# Altium integrated library Micron Memory SDRAM.IntLib: 192 symbols (part 7 of 38)
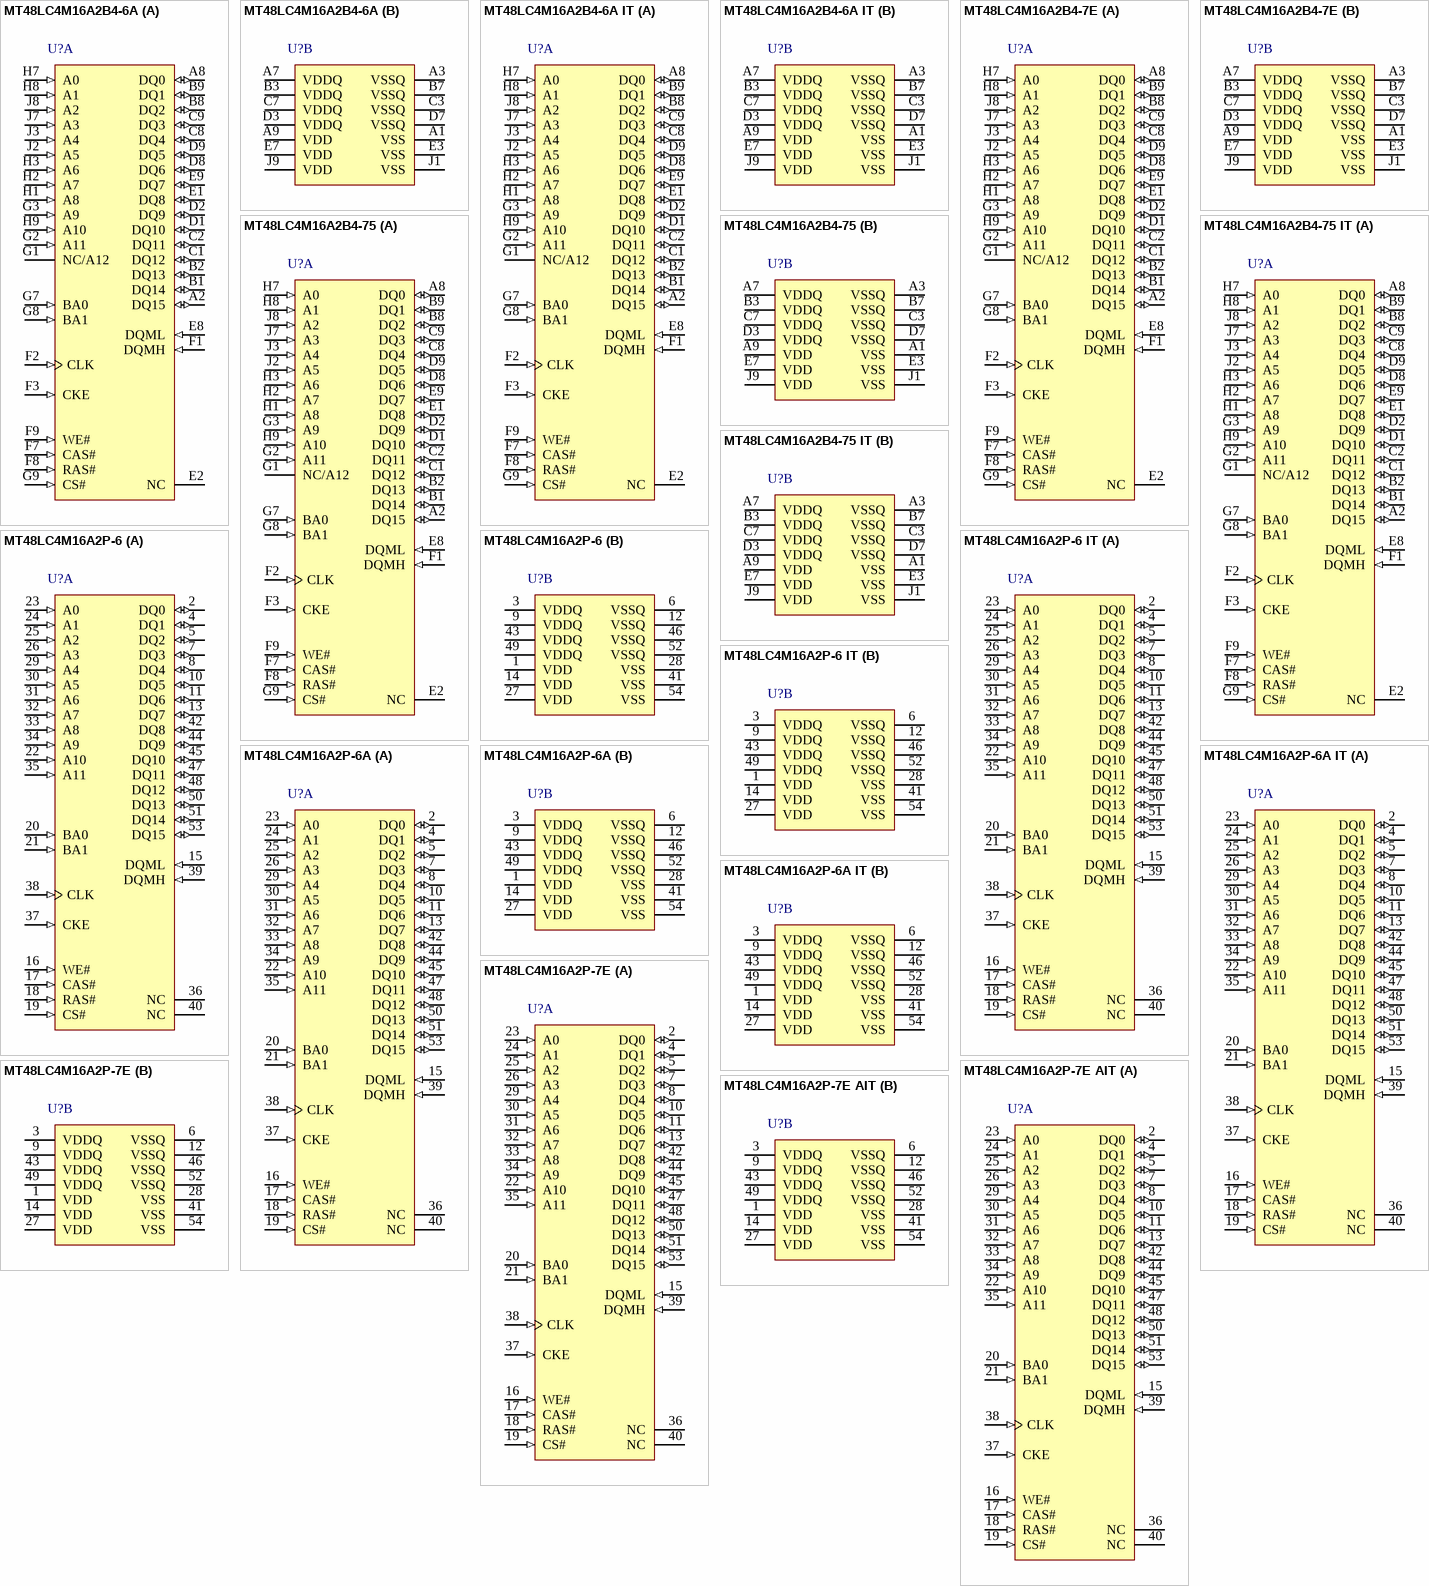
[diagram p26: symbols MT48LC4M16A2B4-6A to MT48LC4M16A2P-7E AIT]

## MT48LC4M16A2P-7E
designator U?
64Mb PC133 SDR SDRAM, 4Mb x 16, 7.5ns, 3.3V, 0 to 70 degC, 54-Pin TSOP, Pb-Free; Manufacturer: Micron; PartNumber: MT48LC4M16A2P-7E; CL: CL = 2; Clock Rate: 133 MHz; Op. Temp.: 0C to +70C; DatasheetVersion: Rev.Q; PackageVersion: Rev.Q; PackageReference: MICT-P-54; PackageDescription: 54-Pin Thin Small Outline Package, 10.16 x 22.22 mm, Pitch 0.8 mm; Cycle Time: 7.5ns; Data Rate: PC133; Density: 64Mb; Depth: 4Mb; RoHS: Yes; Voltage: 3.3V; Width: x16; Mounting Technology: Surface Mount; ComponentLink1Description: Manufacturer URL; ComponentLink1URL: http://www.micron.com/; ComponentLink2Description: Datasheet; ComponentLink2URL: http://www.micron.com/~/media/Documents/Products/Data%20Sheet/DRAM/128Mbx16x32Mobile.pdf; ComponentLink3Description: Package Specification; ComponentLink3URL: http://www.micron.com/~/media/Documents/Products/Data%20Sheet/DRAM/128mb_x4x8x16_sdram.pdf
footprint MICT-P-54_N (SOP, 54-Leads, Body 22.22x10.16mm, Pitch 0.8mm, IPC Medium Density)
part A pins: 2 DQ0 (io) "Data input/output", 4 DQ1 (io) "Data input/output", 5 DQ2 (io) "Data input/output", 7 DQ3 (io) "Data input/output", 8 DQ4 (io) "Data input/output", 10 DQ5 (io) "Data input/output", 11 DQ6 (io) "Data input/output", 13 DQ7 (io) "Data input/output", 15 DQML (in) "Input/output mask: DQM is sampled HIGH and is an input mask signal for writ accesses and an output enable signal for read accesses. Input data is masked during a WRITE cycle. Theoutput buffers are High-Z (two-clock latency) (See Datasheet)", 16 WE# (in) "Command inputs: WE#define the command being entered", 17 CAS# (in) "Command inputs:CAS# define the command being entered", 18 RAS# (in) "Command inputs: RAS#define the command being entered", 19 CS# (in) "Chip select: CS# enables (registered LOW) and disables (registered HIGH) the command decoder.All commands are masked when CS# is registered HIGH, but READ/WRITE bursts already in progress will continue, and DQM operation (See Datasheet)", 20 BA0 (in) "Bank address input(s): BA[1:0] define to which bank the ACTIVE, READ, WRITE, or PRECHARGE command is being applied.", 21 BA1 (in) "Bank address input(s): BA[1:0] define to which bank the ACTIVE, READ, WRITE, or PRECHARGE command is being applied.", 22 A10 (in) "Address inputs: A[11:0] are sampled during the ACTIVE command (row address A[11:0]) and READ or WRITE command (column address  A[7:0] for x16; with A10 defining auto precharge) to select one location out of the memory array (See Datasheet)", 23 A0 (in) "Address inputs: A[11:0] are sampled during the ACTIVE command (row address A[11:0]) and READ or WRITE command (column address  A[7:0] for x16; with A10 defining auto precharge) to select one location out of the memory array (See Datasheet)", 24 A1 (in) "Address inputs: A[11:0] are sampled during the ACTIVE command (row address A[11:0]) and READ or WRITE command (column address  A[7:0] for x16; with A10 defining auto precharge) to select one location out of the memory array (See Datasheet)", 25 A2 (in) "Address inputs: A[11:0] are sampled during the ACTIVE command (row address A[11:0]) and READ or WRITE command (column address  A[7:0] for x16; with A10 defining auto precharge) to select one location out of the memory array (See Datasheet)", 26 A3 (in) "Address inputs: A[11:0] are sampled during the ACTIVE command (row address A[11:0]) and READ or WRITE command (column address  A[7:0] for x16; with A10 defining auto precharge) to select one location out of the memory array (See Datasheet)", 29 A4 (in) "Address inputs: A[11:0] are sampled during the ACTIVE command (row address A[11:0]) and READ or WRITE command (column address  A[7:0] for x16; with A10 defining auto precharge) to select one location out of the memory array (See Datasheet)", 30 A5 (in) "Address inputs: A[11:0] are sampled during the ACTIVE command (row address A[11:0]) and READ or WRITE command (column address  A[7:0] for x16; with A10 defining auto precharge) to select one location out of the memory array (See Datasheet)", 31 A6 (in) "Address inputs: A[11:0] are sampled during the ACTIVE command (row address A[11:0]) and READ or WRITE command (column address  A[7:0] for x16; with A10 defining auto precharge) to select one location out of the memory array (See Datasheet)", 32 A7 (in) "Address inputs: A[11:0] are sampled during the ACTIVE command (row address A[11:0]) and READ or WRITE command (column address  A[7:0] for x16; with A10 defining auto precharge) to select one location out of the memory array (See Datasheet)", 33 A8 (in) "Address inputs: A[11:0] are sampled during the ACTIVE command (row address A[11:0]) and READ or WRITE command (column address  A[7:0] for x16; with A10 defining auto precharge) to select one location out of the memory array (See Datasheet)", 34 A9 (in) "Address inputs: A[11:0] are sampled during the ACTIVE command (row address A[11:0]) and READ or WRITE command (column address  A[7:0] for x16; with A10 defining auto precharge) to select one location out of the memory array (See Datasheet)", 35 A11 (in) "Address inputs: A[11:0] are sampled during the ACTIVE command (row address A[11:0]) and READ or WRITE command (column address  A[7:0] for x16; with A10 defining auto precharge) to select one location out of the memory array (See Datasheet)", 36 NC "No connect: These should be left unconnected", 37 CKE (in) "Clock enable: CKE activates (HIGH) and deactivates (LOW) the CLK signal. Deactivating the clock provides precharge power-down and SELF REFRESH operation (all banks idle), active power-down (row active in any bank), or CLOCK (See Datasheet)", 38 CLK (in) "Clock: CLK is driven by the system clock. All SDRAM input signals are sampled on the positive edge of CLK. CLK also increments the internal burst counter and controls the output registers.", 39 DQMH (in) "Input/output mask: DQM is sampled HIGH and is an input mask signal for write accesses and an output enable signal for read accesses. Input data is masked during a WRITE cycle. The output buffers are High-Z (two-clock (See Datasheet)", 40 NC "No connect: These should be left unconnected", 42 DQ8 (io) "Data input/output: Data bus for x16", 44 DQ9 (io) "Data input/output: Data bus for x16", 45 DQ10 (io) "Data input/output: Data bus for x16", 47 DQ11 (io) "Data input/output: Data bus for x16", 48 DQ12 (io) "Data input/output: Data bus for x16", 50 DQ13 (io) "Data input/output: Data bus for x16", 51 DQ14 (io) "Data input/output: Data bus for x16", 53 DQ15 (io) "Data input/output: Data bus for x16"
part B pins: 1 VDD (power) "Power supply: 3.3V +/-0.3V.", 3 VDDQ (power) "DQ power: DQ power to the die for improved noise immunity.", 6 VSSQ (power) "DQ ground: DQ ground to the die for improved noise immunity", 9 VDDQ (power) "DQ power: DQ power to the die for improved noise immunity.", 12 VSSQ (power) "DQ ground: DQ ground to the die for improved noise immunity", 14 VDD (power) "Power supply: 3.3V +/-0.3V.", 27 VDD (power) "Power supply: 3.3V +/-0.3V.", 28 VSS (power) "Ground.", 41 VSS (power) "Ground", 43 VDDQ (power) "DQ power: DQ power to the die for improved noise immunity", 46 VSSQ (power) "DQ ground: DQ ground to the die for improved noise immunity", 49 VDDQ (power) "DQ power: DQ power to the die for improved noise immunity", 52 VSSQ (power) "DQ ground: DQ ground to the die for improved noise immunity", 54 VSS (power) "Ground."

## MT48LC4M16A2P-7E AIT
designator U?
64Mb PC133 SDR SDRAM, 4Mb x 16, 7.5ns, 3.3V, -40 to 85 degC, 54-Pin TSOP, Pb-Free; Manufacturer: Micron; PartNumber: MT48LC4M16A2P-7E AIT; CL: CL = 2; Clock Rate: 143 MHz; Op. Temp.: -40C to +85C; DatasheetVersion: Rev.Q; PackageVersion: Rev.Q; PackageReference: MICT-P-54; PackageDescription: 54-Pin Thin Small Outline Package, 10.16 x 22.22 mm, Pitch 0.8 mm; Cycle Time: 7.5ns; Data Rate: PC133; Density: 64Mb; Depth: 4Mb; RoHS: Yes; Voltage: 3.3V; Width: x16; Mounting Technology: Surface Mount; ComponentLink1Description: Manufacturer URL; ComponentLink1URL: http://www.micron.com/; ComponentLink2Description: Datasheet; ComponentLink2URL: http://www.micron.com/~/media/Documents/Products/Data%20Sheet/DRAM/128Mbx16x32Mobile.pdf; ComponentLink3Description: Package Specification; ComponentLink3URL: http://www.micron.com/~/media/Documents/Products/Data%20Sheet/DRAM/128mb_x4x8x16_sdram.pdf
footprint MICT-P-54_N (SOP, 54-Leads, Body 22.22x10.16mm, Pitch 0.8mm, IPC Medium Density)
part A pins: 2 DQ0 (io) "Data input/output", 4 DQ1 (io) "Data input/output", 5 DQ2 (io) "Data input/output", 7 DQ3 (io) "Data input/output", 8 DQ4 (io) "Data input/output", 10 DQ5 (io) "Data input/output", 11 DQ6 (io) "Data input/output", 13 DQ7 (io) "Data input/output", 15 DQML (in) "Input/output mask: DQM is sampled HIGH and is an input mask signal for writ accesses and an output enable signal for read accesses. Input data is masked during a WRITE cycle. Theoutput buffers are High-Z (two-clock latency) (See Datasheet)", 16 WE# (in) "Command inputs: WE#define the command being entered", 17 CAS# (in) "Command inputs:CAS# define the command being entered", 18 RAS# (in) "Command inputs: RAS#define the command being entered", 19 CS# (in) "Chip select: CS# enables (registered LOW) and disables (registered HIGH) the command decoder.All commands are masked when CS# is registered HIGH, but READ/WRITE bursts already in progress will continue, and DQM operation (See Datasheet)", 20 BA0 (in) "Bank address input(s): BA[1:0] define to which bank the ACTIVE, READ, WRITE, or PRECHARGE command is being applied.", 21 BA1 (in) "Bank address input(s): BA[1:0] define to which bank the ACTIVE, READ, WRITE, or PRECHARGE command is being applied.", 22 A10 (in) "Address inputs: A[11:0] are sampled during the ACTIVE command (row address A[11:0]) and READ or WRITE command (column address  A[7:0] for x16; with A10 defining auto precharge) to select one location out of the memory array (See Datasheet)", 23 A0 (in) "Address inputs: A[11:0] are sampled during the ACTIVE command (row address A[11:0]) and READ or WRITE command (column address  A[7:0] for x16; with A10 defining auto precharge) to select one location out of the memory array (See Datasheet)", 24 A1 (in) "Address inputs: A[11:0] are sampled during the ACTIVE command (row address A[11:0]) and READ or WRITE command (column address  A[7:0] for x16; with A10 defining auto precharge) to select one location out of the memory array (See Datasheet)", 25 A2 (in) "Address inputs: A[11:0] are sampled during the ACTIVE command (row address A[11:0]) and READ or WRITE command (column address  A[7:0] for x16; with A10 defining auto precharge) to select one location out of the memory array (See Datasheet)", 26 A3 (in) "Address inputs: A[11:0] are sampled during the ACTIVE command (row address A[11:0]) and READ or WRITE command (column address  A[7:0] for x16; with A10 defining auto precharge) to select one location out of the memory array (See Datasheet)", 29 A4 (in) "Address inputs: A[11:0] are sampled during the ACTIVE command (row address A[11:0]) and READ or WRITE command (column address  A[7:0] for x16; with A10 defining auto precharge) to select one location out of the memory array (See Datasheet)", 30 A5 (in) "Address inputs: A[11:0] are sampled during the ACTIVE command (row address A[11:0]) and READ or WRITE command (column address  A[7:0] for x16; with A10 defining auto precharge) to select one location out of the memory array (See Datasheet)", 31 A6 (in) "Address inputs: A[11:0] are sampled during the ACTIVE command (row address A[11:0]) and READ or WRITE command (column address  A[7:0] for x16; with A10 defining auto precharge) to select one location out of the memory array (See Datasheet)", 32 A7 (in) "Address inputs: A[11:0] are sampled during the ACTIVE command (row address A[11:0]) and READ or WRITE command (column address  A[7:0] for x16; with A10 defining auto precharge) to select one location out of the memory array (See Datasheet)", 33 A8 (in) "Address inputs: A[11:0] are sampled during the ACTIVE command (row address A[11:0]) and READ or WRITE command (column address  A[7:0] for x16; with A10 defining auto precharge) to select one location out of the memory array (See Datasheet)", 34 A9 (in) "Address inputs: A[11:0] are sampled during the ACTIVE command (row address A[11:0]) and READ or WRITE command (column address  A[7:0] for x16; with A10 defining auto precharge) to select one location out of the memory array (See Datasheet)", 35 A11 (in) "Address inputs: A[11:0] are sampled during the ACTIVE command (row address A[11:0]) and READ or WRITE command (column address  A[7:0] for x16; with A10 defining auto precharge) to select one location out of the memory array (See Datasheet)", 36 NC "No connect: These should be left unconnected", 37 CKE (in) "Clock enable: CKE activates (HIGH) and deactivates (LOW) the CLK signal. Deactivating the clock provides precharge power-down and SELF REFRESH operation (all banks idle), active power-down (row active in any bank), or CLOCK (See Datasheet)", 38 CLK (in) "Clock: CLK is driven by the system clock. All SDRAM input signals are sampled on the positive edge of CLK. CLK also increments the internal burst counter and controls the output registers.", 39 DQMH (in) "Input/output mask: DQM is sampled HIGH and is an input mask signal for write accesses and an output enable signal for read accesses. Input data is masked during a WRITE cycle. The output buffers are High-Z (two-clock (See Datasheet)", 40 NC "No connect: These should be left unconnected", 42 DQ8 (io) "Data input/output: Data bus for x16", 44 DQ9 (io) "Data input/output: Data bus for x16", 45 DQ10 (io) "Data input/output: Data bus for x16", 47 DQ11 (io) "Data input/output: Data bus for x16", 48 DQ12 (io) "Data input/output: Data bus for x16", 50 DQ13 (io) "Data input/output: Data bus for x16", 51 DQ14 (io) "Data input/output: Data bus for x16", 53 DQ15 (io) "Data input/output: Data bus for x16"
part B pins: 1 VDD (power) "Power supply: 3.3V +/-0.3V.", 3 VDDQ (power) "DQ power: DQ power to the die for improved noise immunity.", 6 VSSQ (power) "DQ ground: DQ ground to the die for improved noise immunity", 9 VDDQ (power) "DQ power: DQ power to the die for improved noise immunity.", 12 VSSQ (power) "DQ ground: DQ ground to the die for improved noise immunity", 14 VDD (power) "Power supply: 3.3V +/-0.3V.", 27 VDD (power) "Power supply: 3.3V +/-0.3V.", 28 VSS (power) "Ground.", 41 VSS (power) "Ground", 43 VDDQ (power) "DQ power: DQ power to the die for improved noise immunity", 46 VSSQ (power) "DQ ground: DQ ground to the die for improved noise immunity", 49 VDDQ (power) "DQ power: DQ power to the die for improved noise immunity", 52 VSSQ (power) "DQ ground: DQ ground to the die for improved noise immunity", 54 VSS (power) "Ground."

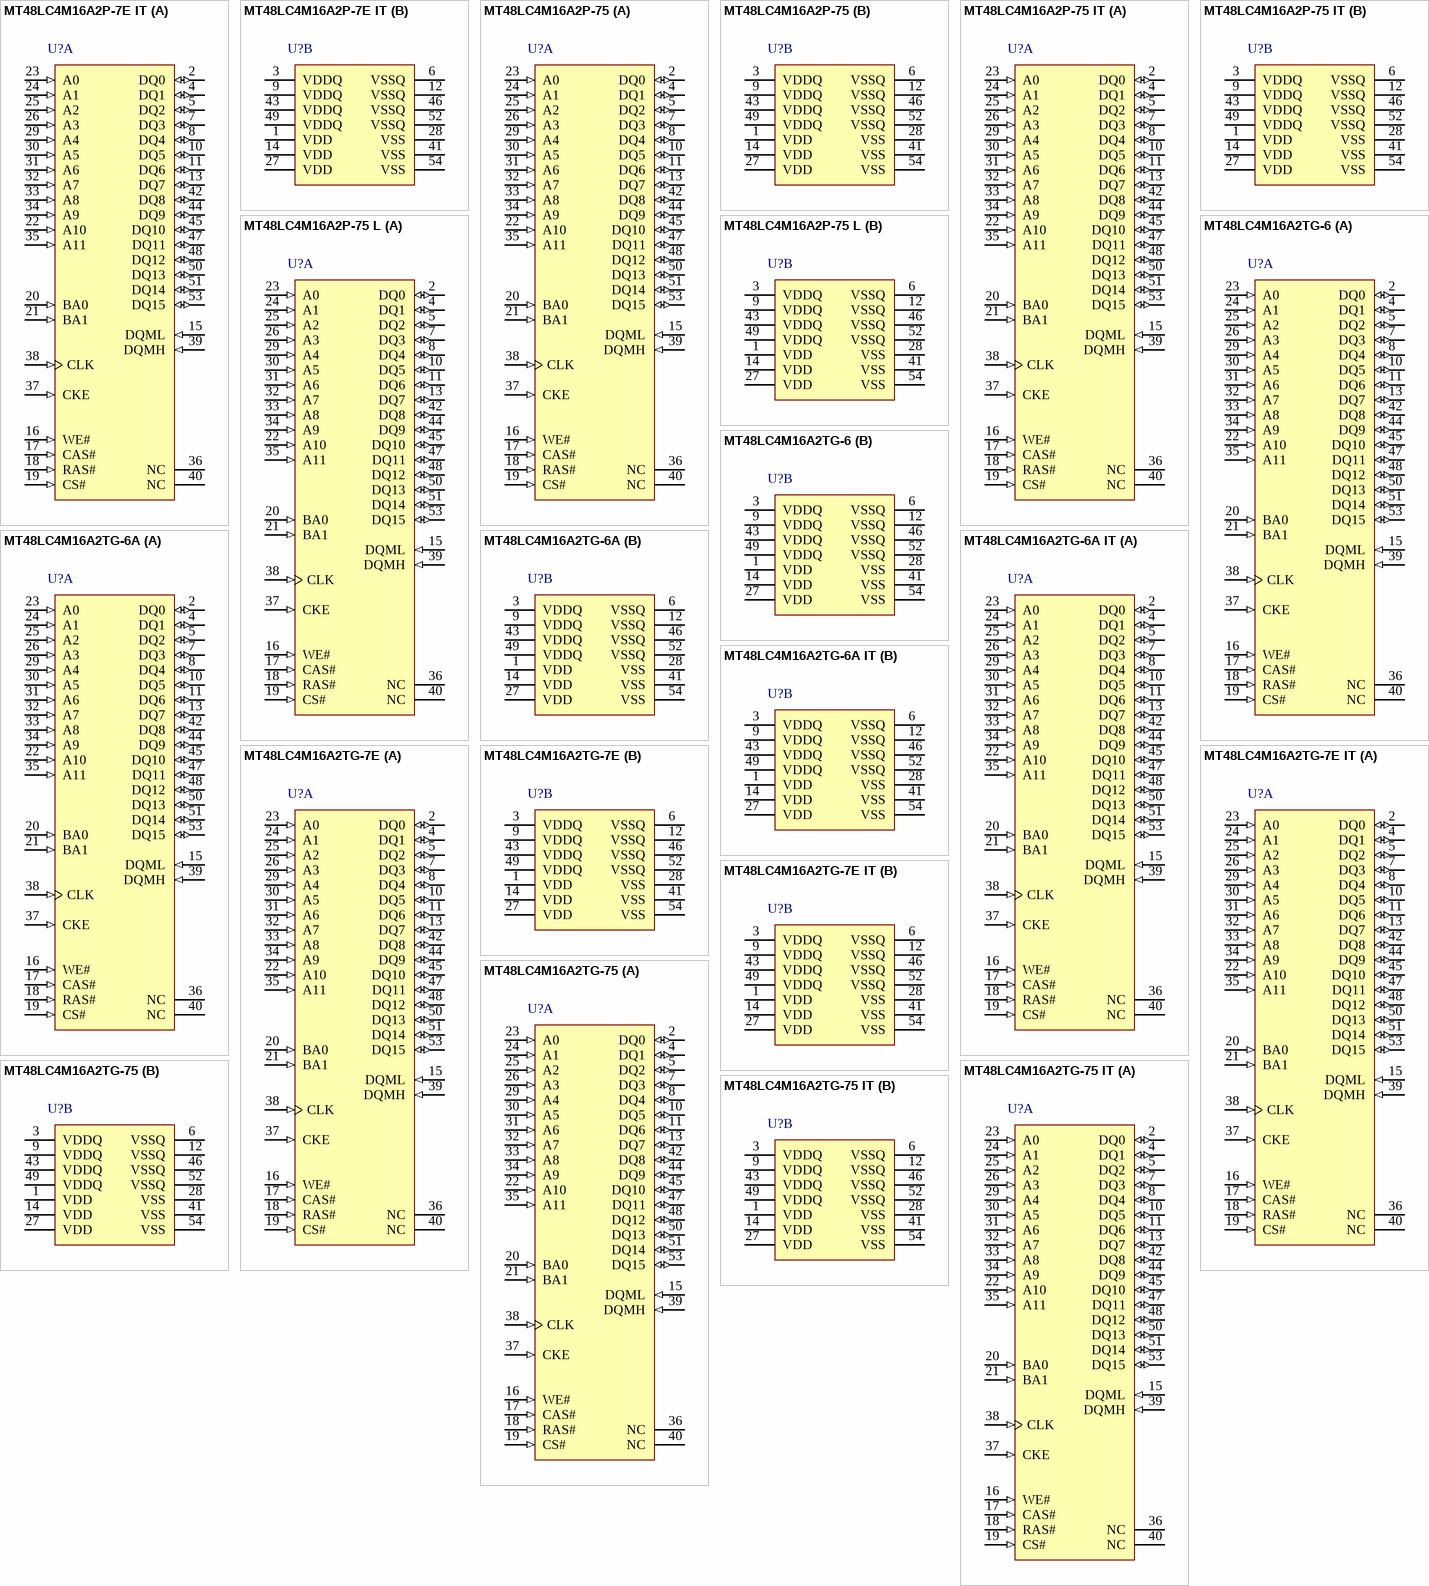
[diagram p4: symbols MT48LC4M16A2P-7E IT to MT48LC4M16A2TG-75 IT]

## MT48LC4M16A2P-7E IT
designator U?
64Mb PC133 SDR SDRAM, 4Mb x 16, 7.5ns, 3.3V, -40C to 85 degC, 54-Pin TSOP, Pb-Free; Manufacturer: Micron; PartNumber: MT48LC4M16A2P-7E IT; CL: CL = 2; Clock Rate: 133 MHz; Op. Temp.: -40C to +85C; DatasheetVersion: Rev.Q; PackageVersion: Rev.Q; PackageReference: MICT-P-54; PackageDescription: 54-Pin Thin Small Outline Package, 10.16 x 22.22 mm, Pitch 0.8 mm; Cycle Time: 7.5ns; Data Rate: PC133; Density: 64Mb; Depth: 4Mb; RoHS: Yes; Voltage: 3.3V; Width: x16; Mounting Technology: Surface Mount; ComponentLink1Description: Manufacturer URL; ComponentLink1URL: http://www.micron.com/; ComponentLink2Description: Datasheet; ComponentLink2URL: http://www.micron.com/~/media/Documents/Products/Data%20Sheet/DRAM/128Mbx16x32Mobile.pdf; ComponentLink3Description: Package Specification; ComponentLink3URL: http://www.micron.com/~/media/Documents/Products/Data%20Sheet/DRAM/128mb_x4x8x16_sdram.pdf
footprint MICT-P-54_N (SOP, 54-Leads, Body 22.22x10.16mm, Pitch 0.8mm, IPC Medium Density)
part A pins: 2 DQ0 (io) "Data input/output", 4 DQ1 (io) "Data input/output", 5 DQ2 (io) "Data input/output", 7 DQ3 (io) "Data input/output", 8 DQ4 (io) "Data input/output", 10 DQ5 (io) "Data input/output", 11 DQ6 (io) "Data input/output", 13 DQ7 (io) "Data input/output", 15 DQML (in) "Input/output mask: DQM is sampled HIGH and is an input mask signal for writ accesses and an output enable signal for read accesses. Input data is masked during a WRITE cycle. Theoutput buffers are High-Z (two-clock latency) (See Datasheet)", 16 WE# (in) "Command inputs: WE#define the command being entered", 17 CAS# (in) "Command inputs:CAS# define the command being entered", 18 RAS# (in) "Command inputs: RAS#define the command being entered", 19 CS# (in) "Chip select: CS# enables (registered LOW) and disables (registered HIGH) the command decoder.All commands are masked when CS# is registered HIGH, but READ/WRITE bursts already in progress will continue, and DQM operation (See Datasheet)", 20 BA0 (in) "Bank address input(s): BA[1:0] define to which bank the ACTIVE, READ, WRITE, or PRECHARGE command is being applied.", 21 BA1 (in) "Bank address input(s): BA[1:0] define to which bank the ACTIVE, READ, WRITE, or PRECHARGE command is being applied.", 22 A10 (in) "Address inputs: A[11:0] are sampled during the ACTIVE command (row address A[11:0]) and READ or WRITE command (column address  A[7:0] for x16; with A10 defining auto precharge) to select one location out of the memory array (See Datasheet)", 23 A0 (in) "Address inputs: A[11:0] are sampled during the ACTIVE command (row address A[11:0]) and READ or WRITE command (column address  A[7:0] for x16; with A10 defining auto precharge) to select one location out of the memory array (See Datasheet)", 24 A1 (in) "Address inputs: A[11:0] are sampled during the ACTIVE command (row address A[11:0]) and READ or WRITE command (column address  A[7:0] for x16; with A10 defining auto precharge) to select one location out of the memory array (See Datasheet)", 25 A2 (in) "Address inputs: A[11:0] are sampled during the ACTIVE command (row address A[11:0]) and READ or WRITE command (column address  A[7:0] for x16; with A10 defining auto precharge) to select one location out of the memory array (See Datasheet)", 26 A3 (in) "Address inputs: A[11:0] are sampled during the ACTIVE command (row address A[11:0]) and READ or WRITE command (column address  A[7:0] for x16; with A10 defining auto precharge) to select one location out of the memory array (See Datasheet)", 29 A4 (in) "Address inputs: A[11:0] are sampled during the ACTIVE command (row address A[11:0]) and READ or WRITE command (column address  A[7:0] for x16; with A10 defining auto precharge) to select one location out of the memory array (See Datasheet)", 30 A5 (in) "Address inputs: A[11:0] are sampled during the ACTIVE command (row address A[11:0]) and READ or WRITE command (column address  A[7:0] for x16; with A10 defining auto precharge) to select one location out of the memory array (See Datasheet)", 31 A6 (in) "Address inputs: A[11:0] are sampled during the ACTIVE command (row address A[11:0]) and READ or WRITE command (column address  A[7:0] for x16; with A10 defining auto precharge) to select one location out of the memory array (See Datasheet)", 32 A7 (in) "Address inputs: A[11:0] are sampled during the ACTIVE command (row address A[11:0]) and READ or WRITE command (column address  A[7:0] for x16; with A10 defining auto precharge) to select one location out of the memory array (See Datasheet)", 33 A8 (in) "Address inputs: A[11:0] are sampled during the ACTIVE command (row address A[11:0]) and READ or WRITE command (column address  A[7:0] for x16; with A10 defining auto precharge) to select one location out of the memory array (See Datasheet)", 34 A9 (in) "Address inputs: A[11:0] are sampled during the ACTIVE command (row address A[11:0]) and READ or WRITE command (column address  A[7:0] for x16; with A10 defining auto precharge) to select one location out of the memory array (See Datasheet)", 35 A11 (in) "Address inputs: A[11:0] are sampled during the ACTIVE command (row address A[11:0]) and READ or WRITE command (column address  A[7:0] for x16; with A10 defining auto precharge) to select one location out of the memory array (See Datasheet)", 36 NC "No connect: These should be left unconnected", 37 CKE (in) "Clock enable: CKE activates (HIGH) and deactivates (LOW) the CLK signal. Deactivating the clock provides precharge power-down and SELF REFRESH operation (all banks idle), active power-down (row active in any bank), or CLOCK (See Datasheet)", 38 CLK (in) "Clock: CLK is driven by the system clock. All SDRAM input signals are sampled on the positive edge of CLK. CLK also increments the internal burst counter and controls the output registers.", 39 DQMH (in) "Input/output mask: DQM is sampled HIGH and is an input mask signal for write accesses and an output enable signal for read accesses. Input data is masked during a WRITE cycle. The output buffers are High-Z (two-clock (See Datasheet)", 40 NC "No connect: These should be left unconnected", 42 DQ8 (io) "Data input/output: Data bus for x16", 44 DQ9 (io) "Data input/output: Data bus for x16", 45 DQ10 (io) "Data input/output: Data bus for x16", 47 DQ11 (io) "Data input/output: Data bus for x16", 48 DQ12 (io) "Data input/output: Data bus for x16", 50 DQ13 (io) "Data input/output: Data bus for x16", 51 DQ14 (io) "Data input/output: Data bus for x16", 53 DQ15 (io) "Data input/output: Data bus for x16"
part B pins: 1 VDD (power) "Power supply: 3.3V +/-0.3V.", 3 VDDQ (power) "DQ power: DQ power to the die for improved noise immunity.", 6 VSSQ (power) "DQ ground: DQ ground to the die for improved noise immunity", 9 VDDQ (power) "DQ power: DQ power to the die for improved noise immunity.", 12 VSSQ (power) "DQ ground: DQ ground to the die for improved noise immunity", 14 VDD (power) "Power supply: 3.3V +/-0.3V.", 27 VDD (power) "Power supply: 3.3V +/-0.3V.", 28 VSS (power) "Ground.", 41 VSS (power) "Ground", 43 VDDQ (power) "DQ power: DQ power to the die for improved noise immunity", 46 VSSQ (power) "DQ ground: DQ ground to the die for improved noise immunity", 49 VDDQ (power) "DQ power: DQ power to the die for improved noise immunity", 52 VSSQ (power) "DQ ground: DQ ground to the die for improved noise immunity", 54 VSS (power) "Ground."

## MT48LC4M16A2P-75
designator U?
64 Mb PC133 SDR SDRAM, 4 Mb x 16, 7.5 ns, 3.3 V, 0 to 70 degC, 54-Pin TSOP, Pb-Free; Manufacturer: Micron; PartNumber: MT48LC4M16A2P-75; CL: CL = 3; Clock Rate: 133 MHz; Cycle Time: 7.5ns; Density: 64Mb; Op. Temp.: 0C to +70C; Voltage: 3.3V; DatasheetVersion: Rev.Q; PackageVersion: Rev.Q; PackageReference: MICT-P-54; PackageDescription: 54-Pin Thin Small Outline Package, 10.16 x 22.22 mm, Pitch 0.8 mm; Data Rate: PC133; Depth: 4Mb; RoHS: Yes; Width: x16; Mounting Technology: Surface Mount; ComponentLink1Description: Manufacturer URL; ComponentLink1URL: http://www.micron.com/; ComponentLink2Description: Datasheet; ComponentLink2URL: http://www.micron.com/~/media/Documents/Products/Data%20Sheet/DRAM/128Mbx16x32Mobile.pdf; ComponentLink3Description: Package Specification; ComponentLink3URL: http://www.micron.com/~/media/Documents/Products/Data%20Sheet/DRAM/128mb_x4x8x16_sdram.pdf
footprint MICT-P-54_N (SOP, 54-Leads, Body 22.22x10.16mm, Pitch 0.8mm, IPC Medium Density)
part A pins: 2 DQ0 (io) "Data input/output", 4 DQ1 (io) "Data input/output", 5 DQ2 (io) "Data input/output", 7 DQ3 (io) "Data input/output", 8 DQ4 (io) "Data input/output", 10 DQ5 (io) "Data input/output", 11 DQ6 (io) "Data input/output", 13 DQ7 (io) "Data input/output", 15 DQML (in) "Input/output mask: DQM is sampled HIGH and is an input mask signal for writ accesses and an output enable signal for read accesses. Input data is masked during a WRITE cycle. Theoutput buffers are High-Z (two-clock latency) (See Datasheet)", 16 WE# (in) "Command inputs: WE#define the command being entered", 17 CAS# (in) "Command inputs:CAS# define the command being entered", 18 RAS# (in) "Command inputs: RAS#define the command being entered", 19 CS# (in) "Chip select: CS# enables (registered LOW) and disables (registered HIGH) the command decoder.All commands are masked when CS# is registered HIGH, but READ/WRITE bursts already in progress will continue, and DQM operation (See Datasheet)", 20 BA0 (in) "Bank address input(s): BA[1:0] define to which bank the ACTIVE, READ, WRITE, or PRECHARGE command is being applied.", 21 BA1 (in) "Bank address input(s): BA[1:0] define to which bank the ACTIVE, READ, WRITE, or PRECHARGE command is being applied.", 22 A10 (in) "Address inputs: A[11:0] are sampled during the ACTIVE command (row address A[11:0]) and READ or WRITE command (column address  A[7:0] for x16; with A10 defining auto precharge) to select one location out of the memory array (See Datasheet)", 23 A0 (in) "Address inputs: A[11:0] are sampled during the ACTIVE command (row address A[11:0]) and READ or WRITE command (column address  A[7:0] for x16; with A10 defining auto precharge) to select one location out of the memory array (See Datasheet)", 24 A1 (in) "Address inputs: A[11:0] are sampled during the ACTIVE command (row address A[11:0]) and READ or WRITE command (column address  A[7:0] for x16; with A10 defining auto precharge) to select one location out of the memory array (See Datasheet)", 25 A2 (in) "Address inputs: A[11:0] are sampled during the ACTIVE command (row address A[11:0]) and READ or WRITE command (column address  A[7:0] for x16; with A10 defining auto precharge) to select one location out of the memory array (See Datasheet)", 26 A3 (in) "Address inputs: A[11:0] are sampled during the ACTIVE command (row address A[11:0]) and READ or WRITE command (column address  A[7:0] for x16; with A10 defining auto precharge) to select one location out of the memory array (See Datasheet)", 29 A4 (in) "Address inputs: A[11:0] are sampled during the ACTIVE command (row address A[11:0]) and READ or WRITE command (column address  A[7:0] for x16; with A10 defining auto precharge) to select one location out of the memory array (See Datasheet)", 30 A5 (in) "Address inputs: A[11:0] are sampled during the ACTIVE command (row address A[11:0]) and READ or WRITE command (column address  A[7:0] for x16; with A10 defining auto precharge) to select one location out of the memory array (See Datasheet)", 31 A6 (in) "Address inputs: A[11:0] are sampled during the ACTIVE command (row address A[11:0]) and READ or WRITE command (column address  A[7:0] for x16; with A10 defining auto precharge) to select one location out of the memory array (See Datasheet)", 32 A7 (in) "Address inputs: A[11:0] are sampled during the ACTIVE command (row address A[11:0]) and READ or WRITE command (column address  A[7:0] for x16; with A10 defining auto precharge) to select one location out of the memory array (See Datasheet)", 33 A8 (in) "Address inputs: A[11:0] are sampled during the ACTIVE command (row address A[11:0]) and READ or WRITE command (column address  A[7:0] for x16; with A10 defining auto precharge) to select one location out of the memory array (See Datasheet)", 34 A9 (in) "Address inputs: A[11:0] are sampled during the ACTIVE command (row address A[11:0]) and READ or WRITE command (column address  A[7:0] for x16; with A10 defining auto precharge) to select one location out of the memory array (See Datasheet)", 35 A11 (in) "Address inputs: A[11:0] are sampled during the ACTIVE command (row address A[11:0]) and READ or WRITE command (column address  A[7:0] for x16; with A10 defining auto precharge) to select one location out of the memory array (See Datasheet)", 36 NC "No connect: These should be left unconnected", 37 CKE (in) "Clock enable: CKE activates (HIGH) and deactivates (LOW) the CLK signal. Deactivating the clock provides precharge power-down and SELF REFRESH operation (all banks idle), active power-down (row active in any bank), or CLOCK (See Datasheet)", 38 CLK (in) "Clock: CLK is driven by the system clock. All SDRAM input signals are sampled on the positive edge of CLK. CLK also increments the internal burst counter and controls the output registers.", 39 DQMH (in) "Input/output mask: DQM is sampled HIGH and is an input mask signal for write accesses and an output enable signal for read accesses. Input data is masked during a WRITE cycle. The output buffers are High-Z (two-clock (See Datasheet)", 40 NC "No connect: These should be left unconnected", 42 DQ8 (io) "Data input/output: Data bus for x16", 44 DQ9 (io) "Data input/output: Data bus for x16", 45 DQ10 (io) "Data input/output: Data bus for x16", 47 DQ11 (io) "Data input/output: Data bus for x16", 48 DQ12 (io) "Data input/output: Data bus for x16", 50 DQ13 (io) "Data input/output: Data bus for x16", 51 DQ14 (io) "Data input/output: Data bus for x16", 53 DQ15 (io) "Data input/output: Data bus for x16"
part B pins: 1 VDD (power) "Power supply: 3.3V +/-0.3V.", 3 VDDQ (power) "DQ power: DQ power to the die for improved noise immunity.", 6 VSSQ (power) "DQ ground: DQ ground to the die for improved noise immunity", 9 VDDQ (power) "DQ power: DQ power to the die for improved noise immunity.", 12 VSSQ (power) "DQ ground: DQ ground to the die for improved noise immunity", 14 VDD (power) "Power supply: 3.3V +/-0.3V.", 27 VDD (power) "Power supply: 3.3V +/-0.3V.", 28 VSS (power) "Ground.", 41 VSS (power) "Ground", 43 VDDQ (power) "DQ power: DQ power to the die for improved noise immunity", 46 VSSQ (power) "DQ ground: DQ ground to the die for improved noise immunity", 49 VDDQ (power) "DQ power: DQ power to the die for improved noise immunity", 52 VSSQ (power) "DQ ground: DQ ground to the die for improved noise immunity", 54 VSS (power) "Ground."

## MT48LC4M16A2P-75 IT
designator U?
64Mb PC133 SDR SDRAM, 4Mb x 16, 7.5ns, 3.3V, -40C to 85 degC, 54-Pin TSOP, Pb-Free; Manufacturer: Micron; PartNumber: MT48LC4M16A2P-75 IT; CL: CL = 3; Clock Rate: 133 MHz; Op. Temp.: -40C to +85C; DatasheetVersion: Rev.Q; PackageVersion: Rev.Q; PackageReference: MICT-P-54; PackageDescription: 54-Pin Thin Small Outline Package, 10.16 x 22.22 mm, Pitch 0.8 mm; Cycle Time: 7.5ns; Data Rate: PC133; Density: 64Mb; Depth: 4Mb; RoHS: Yes; Voltage: 3.3V; Width: x16; Mounting Technology: Surface Mount; ComponentLink1Description: Manufacturer URL; ComponentLink1URL: http://www.micron.com/; ComponentLink2Description: Datasheet; ComponentLink2URL: http://www.micron.com/~/media/Documents/Products/Data%20Sheet/DRAM/128Mbx16x32Mobile.pdf; ComponentLink3Description: Package Specification; ComponentLink3URL: http://www.micron.com/~/media/Documents/Products/Data%20Sheet/DRAM/128mb_x4x8x16_sdram.pdf
footprint MICT-P-54_N (SOP, 54-Leads, Body 22.22x10.16mm, Pitch 0.8mm, IPC Medium Density)
part A pins: 2 DQ0 (io) "Data input/output", 4 DQ1 (io) "Data input/output", 5 DQ2 (io) "Data input/output", 7 DQ3 (io) "Data input/output", 8 DQ4 (io) "Data input/output", 10 DQ5 (io) "Data input/output", 11 DQ6 (io) "Data input/output", 13 DQ7 (io) "Data input/output", 15 DQML (in) "Input/output mask: DQM is sampled HIGH and is an input mask signal for writ accesses and an output enable signal for read accesses. Input data is masked during a WRITE cycle. Theoutput buffers are High-Z (two-clock latency) (See Datasheet)", 16 WE# (in) "Command inputs: WE#define the command being entered", 17 CAS# (in) "Command inputs:CAS# define the command being entered", 18 RAS# (in) "Command inputs: RAS#define the command being entered", 19 CS# (in) "Chip select: CS# enables (registered LOW) and disables (registered HIGH) the command decoder.All commands are masked when CS# is registered HIGH, but READ/WRITE bursts already in progress will continue, and DQM operation (See Datasheet)", 20 BA0 (in) "Bank address input(s): BA[1:0] define to which bank the ACTIVE, READ, WRITE, or PRECHARGE command is being applied.", 21 BA1 (in) "Bank address input(s): BA[1:0] define to which bank the ACTIVE, READ, WRITE, or PRECHARGE command is being applied.", 22 A10 (in) "Address inputs: A[11:0] are sampled during the ACTIVE command (row address A[11:0]) and READ or WRITE command (column address  A[7:0] for x16; with A10 defining auto precharge) to select one location out of the memory array (See Datasheet)", 23 A0 (in) "Address inputs: A[11:0] are sampled during the ACTIVE command (row address A[11:0]) and READ or WRITE command (column address  A[7:0] for x16; with A10 defining auto precharge) to select one location out of the memory array (See Datasheet)", 24 A1 (in) "Address inputs: A[11:0] are sampled during the ACTIVE command (row address A[11:0]) and READ or WRITE command (column address  A[7:0] for x16; with A10 defining auto precharge) to select one location out of the memory array (See Datasheet)", 25 A2 (in) "Address inputs: A[11:0] are sampled during the ACTIVE command (row address A[11:0]) and READ or WRITE command (column address  A[7:0] for x16; with A10 defining auto precharge) to select one location out of the memory array (See Datasheet)", 26 A3 (in) "Address inputs: A[11:0] are sampled during the ACTIVE command (row address A[11:0]) and READ or WRITE command (column address  A[7:0] for x16; with A10 defining auto precharge) to select one location out of the memory array (See Datasheet)", 29 A4 (in) "Address inputs: A[11:0] are sampled during the ACTIVE command (row address A[11:0]) and READ or WRITE command (column address  A[7:0] for x16; with A10 defining auto precharge) to select one location out of the memory array (See Datasheet)", 30 A5 (in) "Address inputs: A[11:0] are sampled during the ACTIVE command (row address A[11:0]) and READ or WRITE command (column address  A[7:0] for x16; with A10 defining auto precharge) to select one location out of the memory array (See Datasheet)", 31 A6 (in) "Address inputs: A[11:0] are sampled during the ACTIVE command (row address A[11:0]) and READ or WRITE command (column address  A[7:0] for x16; with A10 defining auto precharge) to select one location out of the memory array (See Datasheet)", 32 A7 (in) "Address inputs: A[11:0] are sampled during the ACTIVE command (row address A[11:0]) and READ or WRITE command (column address  A[7:0] for x16; with A10 defining auto precharge) to select one location out of the memory array (See Datasheet)", 33 A8 (in) "Address inputs: A[11:0] are sampled during the ACTIVE command (row address A[11:0]) and READ or WRITE command (column address  A[7:0] for x16; with A10 defining auto precharge) to select one location out of the memory array (See Datasheet)", 34 A9 (in) "Address inputs: A[11:0] are sampled during the ACTIVE command (row address A[11:0]) and READ or WRITE command (column address  A[7:0] for x16; with A10 defining auto precharge) to select one location out of the memory array (See Datasheet)", 35 A11 (in) "Address inputs: A[11:0] are sampled during the ACTIVE command (row address A[11:0]) and READ or WRITE command (column address  A[7:0] for x16; with A10 defining auto precharge) to select one location out of the memory array (See Datasheet)", 36 NC "No connect: These should be left unconnected", 37 CKE (in) "Clock enable: CKE activates (HIGH) and deactivates (LOW) the CLK signal. Deactivating the clock provides precharge power-down and SELF REFRESH operation (all banks idle), active power-down (row active in any bank), or CLOCK (See Datasheet)", 38 CLK (in) "Clock: CLK is driven by the system clock. All SDRAM input signals are sampled on the positive edge of CLK. CLK also increments the internal burst counter and controls the output registers.", 39 DQMH (in) "Input/output mask: DQM is sampled HIGH and is an input mask signal for write accesses and an output enable signal for read accesses. Input data is masked during a WRITE cycle. The output buffers are High-Z (two-clock (See Datasheet)", 40 NC "No connect: These should be left unconnected", 42 DQ8 (io) "Data input/output: Data bus for x16", 44 DQ9 (io) "Data input/output: Data bus for x16", 45 DQ10 (io) "Data input/output: Data bus for x16", 47 DQ11 (io) "Data input/output: Data bus for x16", 48 DQ12 (io) "Data input/output: Data bus for x16", 50 DQ13 (io) "Data input/output: Data bus for x16", 51 DQ14 (io) "Data input/output: Data bus for x16", 53 DQ15 (io) "Data input/output: Data bus for x16"
part B pins: 1 VDD (power) "Power supply: 3.3V +/-0.3V.", 3 VDDQ (power) "DQ power: DQ power to the die for improved noise immunity.", 6 VSSQ (power) "DQ ground: DQ ground to the die for improved noise immunity", 9 VDDQ (power) "DQ power: DQ power to the die for improved noise immunity.", 12 VSSQ (power) "DQ ground: DQ ground to the die for improved noise immunity", 14 VDD (power) "Power supply: 3.3V +/-0.3V.", 27 VDD (power) "Power supply: 3.3V +/-0.3V.", 28 VSS (power) "Ground.", 41 VSS (power) "Ground", 43 VDDQ (power) "DQ power: DQ power to the die for improved noise immunity", 46 VSSQ (power) "DQ ground: DQ ground to the die for improved noise immunity", 49 VDDQ (power) "DQ power: DQ power to the die for improved noise immunity", 52 VSSQ (power) "DQ ground: DQ ground to the die for improved noise immunity", 54 VSS (power) "Ground."

## MT48LC4M16A2P-75 L
designator U?
64Mb PC133 SDR SDRAM, 4Mb x 16, 7.5ns, 3.3V, 0C to 70 degC, 54-Pin TSOP, Pb-Free; Manufacturer: Micron; PartNumber: MT48LC4M16A2P-75 L; CL: CL = 3; Clock Rate: 133 MHz; Op. Temp.: 0C to +70C; DatasheetVersion: Rev.Q; PackageVersion: Rev.Q; PackageReference: MICT-P-54; PackageDescription: 54-Pin Thin Small Outline Package, 10.16 x 22.22 mm, Pitch 0.8 mm; Cycle Time: 7.5ns; Data Rate: PC133; Density: 64Mb; Depth: 4Mb; RoHS: Yes; Voltage: 3.3V; Width: x16; Mounting Technology: Surface Mount; ComponentLink1Description: Manufacturer URL; ComponentLink1URL: http://www.micron.com/; ComponentLink2Description: Datasheet; ComponentLink2URL: http://www.micron.com/~/media/Documents/Products/Data%20Sheet/DRAM/128Mbx16x32Mobile.pdf; ComponentLink3Description: Package Specification; ComponentLink3URL: http://www.micron.com/~/media/Documents/Products/Data%20Sheet/DRAM/128mb_x4x8x16_sdram.pdf
footprint MICT-P-54_N (SOP, 54-Leads, Body 22.22x10.16mm, Pitch 0.8mm, IPC Medium Density)
part A pins: 2 DQ0 (io) "Data input/output", 4 DQ1 (io) "Data input/output", 5 DQ2 (io) "Data input/output", 7 DQ3 (io) "Data input/output", 8 DQ4 (io) "Data input/output", 10 DQ5 (io) "Data input/output", 11 DQ6 (io) "Data input/output", 13 DQ7 (io) "Data input/output", 15 DQML (in) "Input/output mask: DQM is sampled HIGH and is an input mask signal for writ accesses and an output enable signal for read accesses. Input data is masked during a WRITE cycle. Theoutput buffers are High-Z (two-clock latency) (See Datasheet)", 16 WE# (in) "Command inputs: WE#define the command being entered", 17 CAS# (in) "Command inputs:CAS# define the command being entered", 18 RAS# (in) "Command inputs: RAS#define the command being entered", 19 CS# (in) "Chip select: CS# enables (registered LOW) and disables (registered HIGH) the command decoder.All commands are masked when CS# is registered HIGH, but READ/WRITE bursts already in progress will continue, and DQM operation (See Datasheet)", 20 BA0 (in) "Bank address input(s): BA[1:0] define to which bank the ACTIVE, READ, WRITE, or PRECHARGE command is being applied.", 21 BA1 (in) "Bank address input(s): BA[1:0] define to which bank the ACTIVE, READ, WRITE, or PRECHARGE command is being applied.", 22 A10 (in) "Address inputs: A[11:0] are sampled during the ACTIVE command (row address A[11:0]) and READ or WRITE command (column address  A[7:0] for x16; with A10 defining auto precharge) to select one location out of the memory array (See Datasheet)", 23 A0 (in) "Address inputs: A[11:0] are sampled during the ACTIVE command (row address A[11:0]) and READ or WRITE command (column address  A[7:0] for x16; with A10 defining auto precharge) to select one location out of the memory array (See Datasheet)", 24 A1 (in) "Address inputs: A[11:0] are sampled during the ACTIVE command (row address A[11:0]) and READ or WRITE command (column address  A[7:0] for x16; with A10 defining auto precharge) to select one location out of the memory array (See Datasheet)", 25 A2 (in) "Address inputs: A[11:0] are sampled during the ACTIVE command (row address A[11:0]) and READ or WRITE command (column address  A[7:0] for x16; with A10 defining auto precharge) to select one location out of the memory array (See Datasheet)", 26 A3 (in) "Address inputs: A[11:0] are sampled during the ACTIVE command (row address A[11:0]) and READ or WRITE command (column address  A[7:0] for x16; with A10 defining auto precharge) to select one location out of the memory array (See Datasheet)", 29 A4 (in) "Address inputs: A[11:0] are sampled during the ACTIVE command (row address A[11:0]) and READ or WRITE command (column address  A[7:0] for x16; with A10 defining auto precharge) to select one location out of the memory array (See Datasheet)", 30 A5 (in) "Address inputs: A[11:0] are sampled during the ACTIVE command (row address A[11:0]) and READ or WRITE command (column address  A[7:0] for x16; with A10 defining auto precharge) to select one location out of the memory array (See Datasheet)", 31 A6 (in) "Address inputs: A[11:0] are sampled during the ACTIVE command (row address A[11:0]) and READ or WRITE command (column address  A[7:0] for x16; with A10 defining auto precharge) to select one location out of the memory array (See Datasheet)", 32 A7 (in) "Address inputs: A[11:0] are sampled during the ACTIVE command (row address A[11:0]) and READ or WRITE command (column address  A[7:0] for x16; with A10 defining auto precharge) to select one location out of the memory array (See Datasheet)", 33 A8 (in) "Address inputs: A[11:0] are sampled during the ACTIVE command (row address A[11:0]) and READ or WRITE command (column address  A[7:0] for x16; with A10 defining auto precharge) to select one location out of the memory array (See Datasheet)", 34 A9 (in) "Address inputs: A[11:0] are sampled during the ACTIVE command (row address A[11:0]) and READ or WRITE command (column address  A[7:0] for x16; with A10 defining auto precharge) to select one location out of the memory array (See Datasheet)", 35 A11 (in) "Address inputs: A[11:0] are sampled during the ACTIVE command (row address A[11:0]) and READ or WRITE command (column address  A[7:0] for x16; with A10 defining auto precharge) to select one location out of the memory array (See Datasheet)", 36 NC "No connect: These should be left unconnected", 37 CKE (in) "Clock enable: CKE activates (HIGH) and deactivates (LOW) the CLK signal. Deactivating the clock provides precharge power-down and SELF REFRESH operation (all banks idle), active power-down (row active in any bank), or CLOCK (See Datasheet)", 38 CLK (in) "Clock: CLK is driven by the system clock. All SDRAM input signals are sampled on the positive edge of CLK. CLK also increments the internal burst counter and controls the output registers.", 39 DQMH (in) "Input/output mask: DQM is sampled HIGH and is an input mask signal for write accesses and an output enable signal for read accesses. Input data is masked during a WRITE cycle. The output buffers are High-Z (two-clock (See Datasheet)", 40 NC "No connect: These should be left unconnected", 42 DQ8 (io) "Data input/output: Data bus for x16", 44 DQ9 (io) "Data input/output: Data bus for x16", 45 DQ10 (io) "Data input/output: Data bus for x16", 47 DQ11 (io) "Data input/output: Data bus for x16", 48 DQ12 (io) "Data input/output: Data bus for x16", 50 DQ13 (io) "Data input/output: Data bus for x16", 51 DQ14 (io) "Data input/output: Data bus for x16", 53 DQ15 (io) "Data input/output: Data bus for x16"
part B pins: 1 VDD (power) "Power supply: 3.3V +/-0.3V.", 3 VDDQ (power) "DQ power: DQ power to the die for improved noise immunity.", 6 VSSQ (power) "DQ ground: DQ ground to the die for improved noise immunity", 9 VDDQ (power) "DQ power: DQ power to the die for improved noise immunity.", 12 VSSQ (power) "DQ ground: DQ ground to the die for improved noise immunity", 14 VDD (power) "Power supply: 3.3V +/-0.3V.", 27 VDD (power) "Power supply: 3.3V +/-0.3V.", 28 VSS (power) "Ground.", 41 VSS (power) "Ground", 43 VDDQ (power) "DQ power: DQ power to the die for improved noise immunity", 46 VSSQ (power) "DQ ground: DQ ground to the die for improved noise immunity", 49 VDDQ (power) "DQ power: DQ power to the die for improved noise immunity", 52 VSSQ (power) "DQ ground: DQ ground to the die for improved noise immunity", 54 VSS (power) "Ground."